# EAGLE library part XC2S200-PQ208 (library Xilinx)
Spartan II FPGA in PQ208 package. Don't use for new designs.
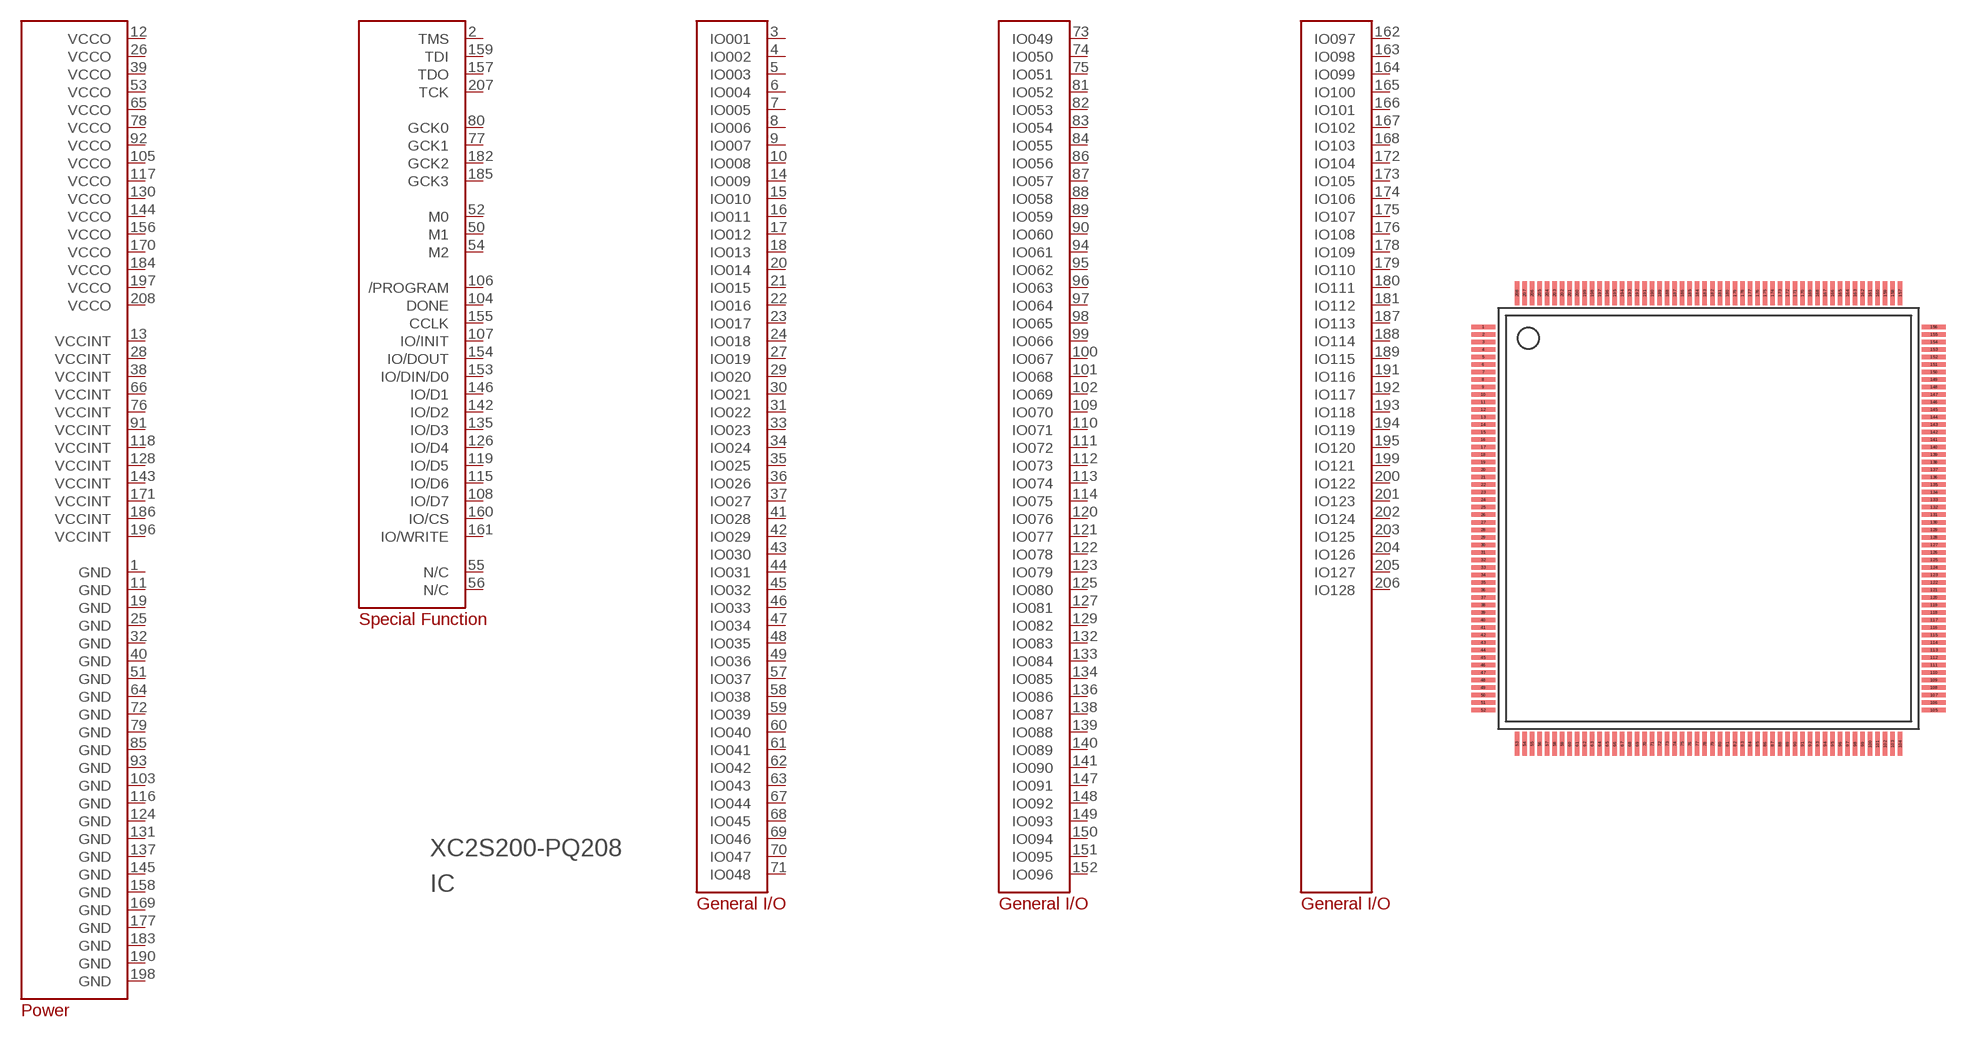
[diagram p6: symbol with the pads of PQ208; footprint PQ208]

Designator prefix IC

## XC2S200-PQ208  [PQ208]
1  GND  pwr
2  TMS
3  IO001
4  IO002
5  IO003
6  IO004
7  IO005
8  IO006
9  IO007
10  IO008
11  GND  pwr
12  VCCO  pwr
13  VCCINT  pwr
14  IO009
15  IO010
16  IO011
17  IO012
18  IO013
19  GND  pwr
20  IO014
21  IO015
22  IO016
23  IO017
24  IO018
25  GND  pwr
26  VCCO  pwr
27  IO019
28  VCCINT  pwr
29  IO020
30  IO021
31  IO022
32  GND  pwr
33  IO023
34  IO024
35  IO025
36  IO026
37  IO027
38  VCCINT  pwr
39  VCCO  pwr
40  GND  pwr
41  IO028
42  IO029
43  IO030
44  IO031
45  IO032
46  IO033
47  IO034
48  IO035
49  IO036
50  M1
51  GND  pwr
52  M0
53  VCCO  pwr
54  M2
55  N/C
56  N/C
57  IO037
58  IO038
59  IO039
60  IO040
61  IO041
62  IO042
63  IO043
64  GND  pwr
65  VCCO  pwr
66  VCCINT  pwr
67  IO044
68  IO045
69  IO046
70  IO047
71  IO048
72  GND  pwr
73  IO049
74  IO050
75  IO051
76  VCCINT  pwr
77  GCK1
78  VCCO  pwr
79  GND  pwr
80  GCK0
81  IO052
82  IO053
83  IO054
84  IO055
85  GND  pwr
86  IO056
87  IO057
88  IO058
89  IO059
90  IO060
91  VCCINT  pwr
92  VCCO  pwr
93  GND  pwr
94  IO061
95  IO062
96  IO063
97  IO064
98  IO065
99  IO066
100  IO067
101  IO068
102  IO069
103  GND  pwr
104  DONE
105  VCCO  pwr
106  /PROGRAM
107  IO/INIT
108  IO/D7
109  IO070
110  IO071
111  IO072
112  IO073
113  IO074
114  IO075
115  IO/D6
116  GND  pwr
117  VCCO  pwr
118  VCCINT  pwr
119  IO/D5
120  IO076
121  IO077
122  IO078
123  IO079
124  GND  pwr
125  IO080
126  IO/D4
127  IO081
128  VCCINT  pwr
129  IO082
130  VCCO  pwr
131  GND  pwr
132  IO083
133  IO084
134  IO085
135  IO/D3
136  IO086
137  GND  pwr
138  IO087
139  IO088
140  IO089
141  IO090
142  IO/D2
143  VCCINT  pwr
144  VCCO  pwr
145  GND  pwr
146  IO/D1
147  IO091
148  IO092
149  IO093
150  IO094
151  IO095
152  IO096
153  IO/DIN/D0
154  IO/DOUT
155  CCLK
156  VCCO  pwr
157  TDO
158  GND  pwr
159  TDI
160  IO/CS
161  IO/WRITE
162  IO097
163  IO098
164  IO099
165  IO100
166  IO101
167  IO102
168  IO103
169  GND  pwr
170  VCCO  pwr
171  VCCINT  pwr
172  IO104
173  IO105
174  IO106
175  IO107
176  IO108
177  GND  pwr
178  IO109
179  IO110
180  IO111
181  IO112
182  GCK2
183  GND  pwr
184  VCCO  pwr
185  GCK3
186  VCCINT  pwr
187  IO113
188  IO114
189  IO115
190  GND  pwr
191  IO116
192  IO117
193  IO118
194  IO119
195  IO120
196  VCCINT
197  VCCO  pwr
198  GND  pwr
199  IO121
200  IO122
201  IO123
202  IO124
203  IO125
204  IO126
205  IO127
206  IO128
207  TCK
208  VCCO  pwr

## Footprint PQ208 (pad centres in mm)
smd 1.6 x 0.3: 1 -15,12.75; 2 -15,12.25; 3 -15,11.75; 4 -15,11.25; 5 -15,10.75; 6 -15,10.25; 7 -15,9.75; 8 -15,9.25; 9 -15,8.75; 10 -15,8.25; 11 -15,7.75; 12 -15,7.25; 13 -15,6.75; 14 -15,6.25; 15 -15,5.75; 16 -15,5.25; 17 -15,4.75; 18 -15,4.25; 19 -15,3.75; 20 -15,3.25; 21 -15,2.75; 22 -15,2.25; 23 -15,1.75; 24 -15,1.25; 25 -15,0.75; 26 -15,0.25; 27 -15,-0.25; 28 -15,-0.75; 29 -15,-1.25; 30 -15,-1.75; 31 -15,-2.25; 32 -15,-2.75; 33 -15,-3.25; 34 -15,-3.75; 35 -15,-4.25; 36 -15,-4.75; 37 -15,-5.25; 38 -15,-5.75; 39 -15,-6.25; 40 -15,-6.75; 41 -15,-7.25; 42 -15,-7.75; 43 -15,-8.25; 44 -15,-8.75; 45 -15,-9.25; 46 -15,-9.75; 47 -15,-10.25; 48 -15,-10.75; 49 -15,-11.25; 50 -15,-11.75; 51 -15,-12.25; 52 -15,-12.75; 105 15,-12.75; 106 15,-12.25; 107 15,-11.75; 108 15,-11.25; 109 15,-10.75; 110 15,-10.25; 111 15,-9.75; 112 15,-9.25; 113 15,-8.75; 114 15,-8.25; 115 15,-7.75; 116 15,-7.25; 117 15,-6.75; 118 15,-6.25; 119 15,-5.75; 120 15,-5.25; 121 15,-4.75; 122 15,-4.25; 123 15,-3.75; 124 15,-3.25; 125 15,-2.75; 126 15,-2.25; 127 15,-1.75; 128 15,-1.25; 129 15,-0.75; 130 15,-0.25; 131 15,0.25; 132 15,0.75; 133 15,1.25; 134 15,1.75; 135 15,2.25; 136 15,2.75; 137 15,3.25; 138 15,3.75; 139 15,4.25; 140 15,4.75; 141 15,5.25; 142 15,5.75; 143 15,6.25; 144 15,6.75; 145 15,7.25; 146 15,7.75; 147 15,8.25; 148 15,8.75; 149 15,9.25; 150 15,9.75; 151 15,10.25; 152 15,10.75; 153 15,11.25; 154 15,11.75; 155 15,12.25; 156 15,12.75
smd 0.3 x 1.6: 53 -12.75,-15; 54 -12.25,-15; 55 -11.75,-15; 56 -11.25,-15; 57 -10.75,-15; 58 -10.25,-15; 59 -9.75,-15; 60 -9.25,-15; 61 -8.75,-15; 62 -8.25,-15; 63 -7.75,-15; 64 -7.25,-15; 65 -6.75,-15; 66 -6.25,-15; 67 -5.75,-15; 68 -5.25,-15; 69 -4.75,-15; 70 -4.25,-15; 71 -3.75,-15; 72 -3.25,-15; 73 -2.75,-15; 74 -2.25,-15; 75 -1.75,-15; 76 -1.25,-15; 77 -0.75,-15; 78 -0.25,-15; 79 0.25,-15; 80 0.75,-15; 81 1.25,-15; 82 1.75,-15; 83 2.25,-15; 84 2.75,-15; 85 3.25,-15; 86 3.75,-15; 87 4.25,-15; 88 4.75,-15; 89 5.25,-15; 90 5.75,-15; 91 6.25,-15; 92 6.75,-15; 93 7.25,-15; 94 7.75,-15; 95 8.25,-15; 96 8.75,-15; 97 9.25,-15; 98 9.75,-15; 99 10.25,-15; 100 10.75,-15; 101 11.25,-15; 102 11.75,-15; 103 12.25,-15; 104 12.75,-15; 157 12.75,15; 158 12.25,15; 159 11.75,15; 160 11.25,15; 161 10.75,15; 162 10.25,15; 163 9.75,15; 164 9.25,15; 165 8.75,15; 166 8.25,15; 167 7.75,15; 168 7.25,15; 169 6.75,15; 170 6.25,15; 171 5.75,15; 172 5.25,15; 173 4.75,15; 174 4.25,15; 175 3.75,15; 176 3.25,15; 177 2.75,15; 178 2.25,15; 179 1.75,15; 180 1.25,15; 181 0.75,15; 182 0.25,15; 183 -0.25,15; 184 -0.75,15; 185 -1.25,15; 186 -1.75,15; 187 -2.25,15; 188 -2.75,15; 189 -3.25,15; 190 -3.75,15; 191 -4.25,15; 192 -4.75,15; 193 -5.25,15; 194 -5.75,15; 195 -6.25,15; 196 -6.75,15; 197 -7.25,15; 198 -7.75,15; 199 -8.25,15; 200 -8.75,15; 201 -9.25,15; 202 -9.75,15; 203 -10.25,15; 204 -10.75,15; 205 -11.25,15; 206 -11.75,15; 207 -12.25,15; 208 -12.75,15